# Altium footprint library Texas Instruments Footprints.PcbLib: 429 footprints (part 5 of 32)
Each footprint in its own frame and in the unit in brackets; x right, y up, seen from the top. Pads: shape width x height; smd on the part's side, far side on the other; paste and mask are expansions set on the pad; w line width, h text height; cw(c..) or ccw(c..) is an arc to the next point about the centre after c.
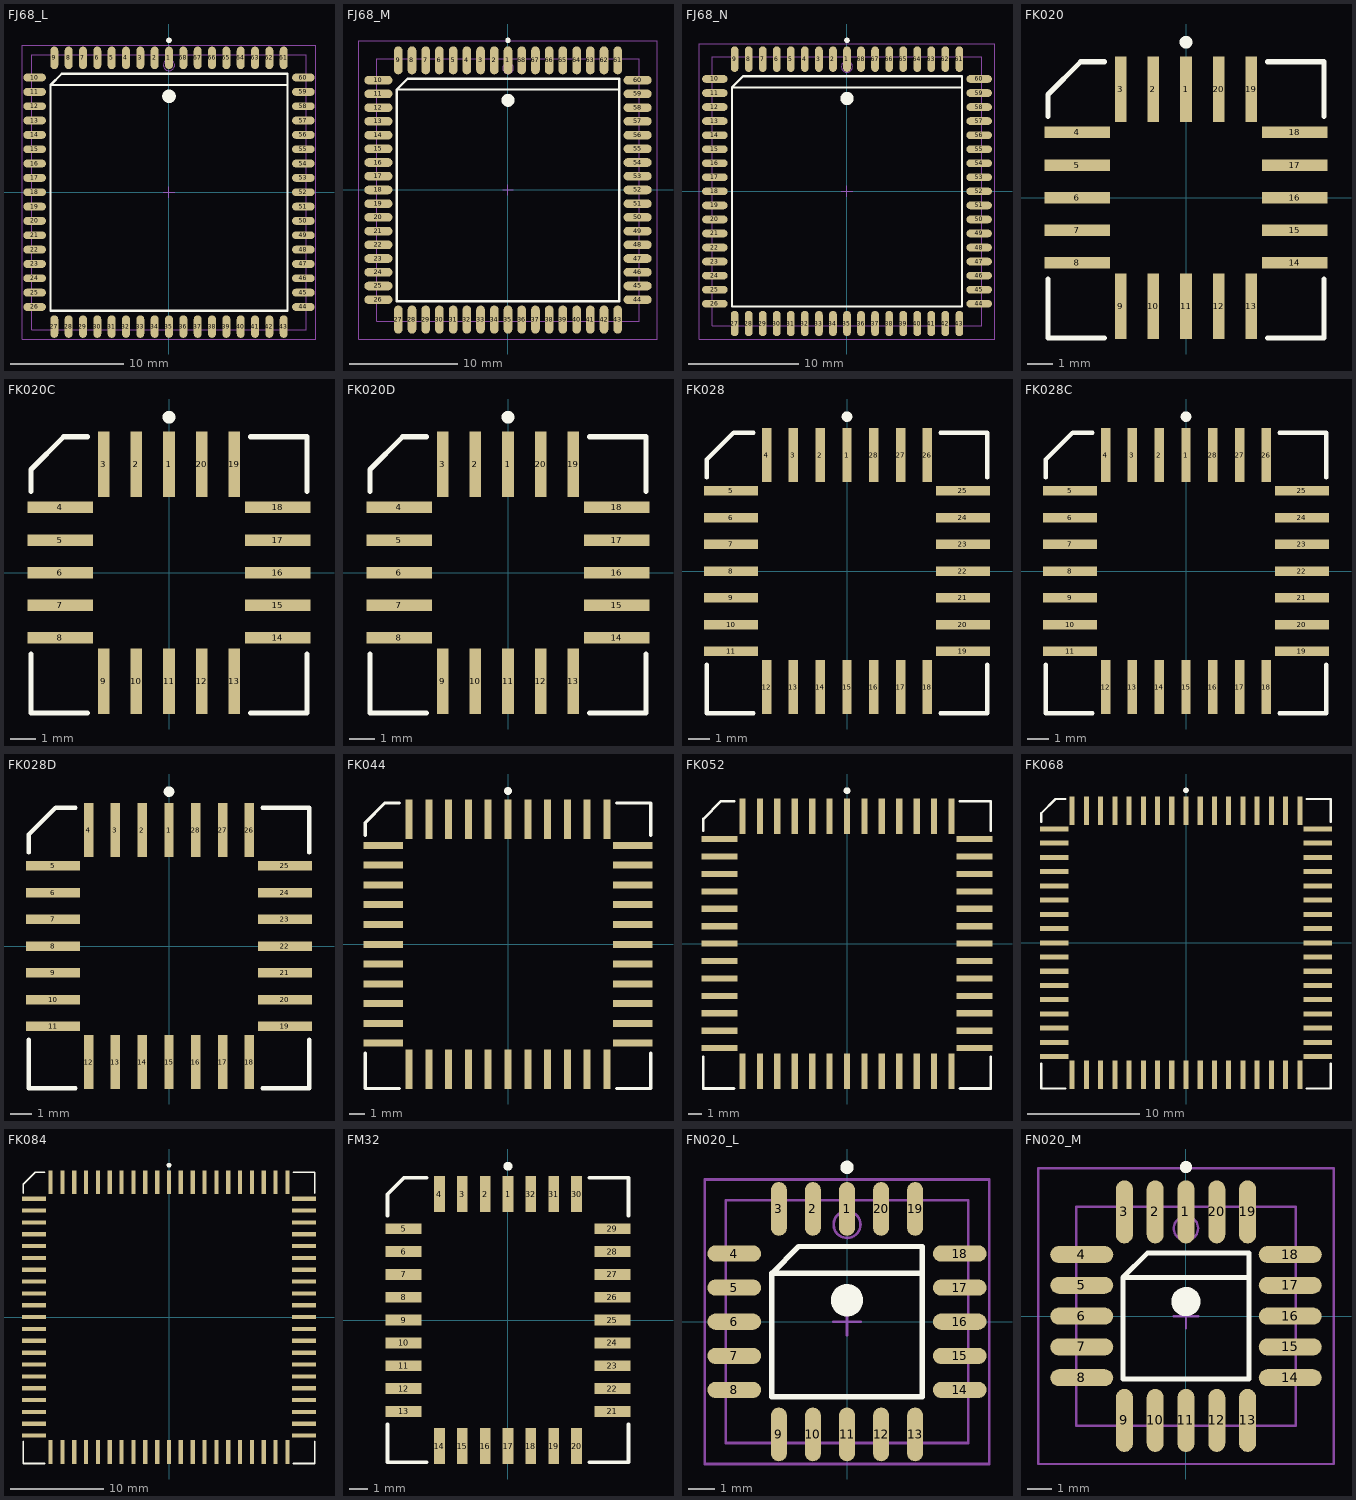
[diagram p4: the footprints below, top view; thin cyan lines are the x and y axes]

## FJ68_L [mm] "68-Pin Leaded Chip Carrier 1.27 mm Pitch, IPC High Density"
height 3.68
pads (68):
  oval 0.7x2 smd: 1(0,11.9) 2(-1.27,11.9) 3(-2.54,11.9) 4(-3.81,11.9) 5(-5.08,11.9) 6(-6.35,11.9) 7(-7.62,11.9) 8(-8.89,11.9) 9(-10.16,11.9) 27(-10.16,-11.9) 28(-8.89,-11.9) 29(-7.62,-11.9) 30(-6.35,-11.9) 31(-5.08,-11.9) 32(-3.81,-11.9) 33(-2.54,-11.9) 34(-1.27,-11.9) 35(0,-11.9) 36(1.27,-11.9) 37(2.54,-11.9) 38(3.81,-11.9) 39(5.08,-11.9) 40(6.35,-11.9) 41(7.62,-11.9) 42(8.89,-11.9) 43(10.16,-11.9) 61(10.16,11.9) 62(8.89,11.9) 63(7.62,11.9) 64(6.35,11.9) 65(5.08,11.9) 66(3.81,11.9) 67(2.54,11.9) 68(1.27,11.9)
  oval 2x0.7 smd: 10(-11.9,10.16) 11(-11.9,8.89) 12(-11.9,7.62) 13(-11.9,6.35) 14(-11.9,5.08) 15(-11.9,3.81) 16(-11.9,2.54) 17(-11.9,1.27) 18(-11.9,0) 19(-11.9,-1.27) 20(-11.9,-2.54) 21(-11.9,-3.81) 22(-11.9,-5.08) 23(-11.9,-6.35) 24(-11.9,-7.62) 25(-11.9,-8.89) 26(-11.9,-10.16) 44(11.9,-10.16) 45(11.9,-8.89) 46(11.9,-7.62) 47(11.9,-6.35) 48(11.9,-5.08) 49(11.9,-3.81) 50(11.9,-2.54) 51(11.9,-1.27) 52(11.9,0) 53(11.9,1.27) 54(11.9,2.54) 55(11.9,3.81) 56(11.9,5.08) 57(11.9,6.35) 58(11.9,7.62) 59(11.9,8.89) 60(11.9,10.16)
Top Overlay:
  circle w0.25: c0,13.45 r0.125
  circle w0.6: c0,8.5 r0.3
  lines w0.2: 10.5,9.5 -10.5,9.5 ; -10.5,9.5 -9.5,10.5 10.5,10.5 10.5,-10.5 -10.5,-10.5 -10.5,9.5
Mechanical 13:
  circle w0.1: c0,11.265 r0.5
  lines w0.1: -12.165,-12.165 -12.165,12.165 12.165,12.165 12.165,-12.165 -12.165,-12.165
Mechanical 15:
  lines w0.1: -0.5,0 0.5,0 ; 0,-0.5 0,0.5 ; -13,-13 -13,13 13,13 13,-13 -13,-13
3D body: height 3.68, standoff 0, extent -12.165,-12.165 12.165,12.165

## FJ68_M [mm] "68-Pin Leaded Chip Carrier 1.27 mm Pitch, IPC Low Density"
height 3.68
pads (68):
  oval 0.8x2.6 smd: 1(0,12) 2(-1.27,12) 3(-2.54,12) 4(-3.81,12) 5(-5.08,12) 6(-6.35,12) 7(-7.62,12) 8(-8.89,12) 9(-10.16,12) 27(-10.16,-12) 28(-8.89,-12) 29(-7.62,-12) 30(-6.35,-12) 31(-5.08,-12) 32(-3.81,-12) 33(-2.54,-12) 34(-1.27,-12) 35(0,-12) 36(1.27,-12) 37(2.54,-12) 38(3.81,-12) 39(5.08,-12) 40(6.35,-12) 41(7.62,-12) 42(8.89,-12) 43(10.16,-12) 61(10.16,12) 62(8.89,12) 63(7.62,12) 64(6.35,12) 65(5.08,12) 66(3.81,12) 67(2.54,12) 68(1.27,12)
  oval 2.6x0.8 smd: 10(-12,10.16) 11(-12,8.89) 12(-12,7.62) 13(-12,6.35) 14(-12,5.08) 15(-12,3.81) 16(-12,2.54) 17(-12,1.27) 18(-12,0) 19(-12,-1.27) 20(-12,-2.54) 21(-12,-3.81) 22(-12,-5.08) 23(-12,-6.35) 24(-12,-7.62) 25(-12,-8.89) 26(-12,-10.16) 44(12,-10.16) 45(12,-8.89) 46(12,-7.62) 47(12,-6.35) 48(12,-5.08) 49(12,-3.81) 50(12,-2.54) 51(12,-1.27) 52(12,0) 53(12,1.27) 54(12,2.54) 55(12,3.81) 56(12,5.08) 57(12,6.35) 58(12,7.62) 59(12,8.89) 60(12,10.16)
Top Overlay:
  circle w0.25: c0,13.85 r0.125
  circle w0.6: c0,8.3 r0.3
  lines w0.2: 10.3,9.3 -10.3,9.3 ; -10.3,9.3 -9.3,10.3 10.3,10.3 10.3,-10.3 -10.3,-10.3 -10.3,9.3
Mechanical 13:
  circle w0.1: c0,11.265 r0.5
  lines w0.1: -12.165,-12.165 -12.165,12.165 12.165,12.165 12.165,-12.165 -12.165,-12.165
Mechanical 15:
  lines w0.1: -0.5,0 0.5,0 ; 0,-0.5 0,0.5 ; -13.8,-13.8 -13.8,13.8 13.8,13.8 13.8,-13.8 -13.8,-13.8
3D body: height 3.68, standoff 0, extent -12.165,-12.165 12.165,12.165

## FJ68_N [mm] "68-Pin Leaded Chip Carrier 1.27 mm Pitch, IPC Medium Density"
height 3.68
pads (68):
  oval 0.7x2.3 smd: 1(0,11.95) 2(-1.27,11.95) 3(-2.54,11.95) 4(-3.81,11.95) 5(-5.08,11.95) 6(-6.35,11.95) 7(-7.62,11.95) 8(-8.89,11.95) 9(-10.16,11.95) 27(-10.16,-11.95) 28(-8.89,-11.95) 29(-7.62,-11.95) 30(-6.35,-11.95) 31(-5.08,-11.95) 32(-3.81,-11.95) 33(-2.54,-11.95) 34(-1.27,-11.95) 35(0,-11.95) 36(1.27,-11.95) 37(2.54,-11.95) 38(3.81,-11.95) 39(5.08,-11.95) 40(6.35,-11.95) 41(7.62,-11.95) 42(8.89,-11.95) 43(10.16,-11.95) 61(10.16,11.95) 62(8.89,11.95) 63(7.62,11.95) 64(6.35,11.95) 65(5.08,11.95) 66(3.81,11.95) 67(2.54,11.95) 68(1.27,11.95)
  oval 2.3x0.7 smd: 10(-11.95,10.16) 11(-11.95,8.89) 12(-11.95,7.62) 13(-11.95,6.35) 14(-11.95,5.08) 15(-11.95,3.81) 16(-11.95,2.54) 17(-11.95,1.27) 18(-11.95,0) 19(-11.95,-1.27) 20(-11.95,-2.54) 21(-11.95,-3.81) 22(-11.95,-5.08) 23(-11.95,-6.35) 24(-11.95,-7.62) 25(-11.95,-8.89) 26(-11.95,-10.16) 44(11.95,-10.16) 45(11.95,-8.89) 46(11.95,-7.62) 47(11.95,-6.35) 48(11.95,-5.08) 49(11.95,-3.81) 50(11.95,-2.54) 51(11.95,-1.27) 52(11.95,0) 53(11.95,1.27) 54(11.95,2.54) 55(11.95,3.81) 56(11.95,5.08) 57(11.95,6.35) 58(11.95,7.62) 59(11.95,8.89) 60(11.95,10.16)
Top Overlay:
  circle w0.25: c0,13.65 r0.125
  circle w0.6: c0,8.4 r0.3
  lines w0.2: 10.4,9.4 -10.4,9.4 ; -10.4,9.4 -9.4,10.4 10.4,10.4 10.4,-10.4 -10.4,-10.4 -10.4,9.4
Mechanical 13:
  circle w0.1: c0,11.265 r0.5
  lines w0.1: -12.165,-12.165 -12.165,12.165 12.165,12.165 12.165,-12.165 -12.165,-12.165
Mechanical 15:
  lines w0.1: -0.5,0 0.5,0 ; 0,-0.5 0,0.5 ; -13.35,-13.35 -13.35,13.35 13.35,13.35 13.35,-13.35 -13.35,-13.35
3D body: height 3.68, standoff 0, extent -12.165,-12.165 12.165,12.165

## FK020 [mm] "Leadless Chip Carrier; 20 Terminals; Body 8.9 x 8.9 mm"
height 2.03
pads (20):
  rect 0.45x2.55 smd: 1(0,4.225) 2(-1.27,4.225) 3(-2.54,4.225) 9(-2.54,-4.225) 10(-1.27,-4.225) 11(0,-4.225) 12(1.27,-4.225) 13(2.54,-4.225) 19(2.54,4.225) 20(1.27,4.225)
  rect 2.55x0.45 smd: 4(-4.225,2.54) 5(-4.225,1.27) 6(-4.225,0) 7(-4.225,-1.27) 8(-4.225,-2.54) 14(4.225,-2.54) 15(4.225,-1.27) 16(4.225,0) 17(4.225,1.27) 18(4.225,2.54)
Top Overlay:
  circle w0.25: c0,6.05 r0.125
  lines w0.2: -5.375,-3.165 -5.375,-5.463 -3.165,-5.463 ; -5.375,3.165 -5.375,4.012 -4.1,5.288 -3.165,5.288 ; 3.165,-5.463 5.375,-5.463 5.375,-3.165 ; 3.165,5.288 5.375,5.288 5.375,3.165

## FK020C [mm] "Leadless Chip Carrier; 20 Terminals; Body 8.9 x 8.9 mm"
height 2.03
pads (20):
  rect 0.45x2.55 smd: 1(0,4.225) 2(-1.27,4.225) 3(-2.54,4.225) 9(-2.54,-4.225) 10(-1.27,-4.225) 11(0,-4.225) 12(1.27,-4.225) 13(2.54,-4.225) 19(2.54,4.225) 20(1.27,4.225)
  rect 2.55x0.45 smd: 4(-4.225,2.54) 5(-4.225,1.27) 6(-4.225,0) 7(-4.225,-1.27) 8(-4.225,-2.54) 14(4.225,-2.54) 15(4.225,-1.27) 16(4.225,0) 17(4.225,1.27) 18(4.225,2.54)
Top Overlay:
  circle w0.25: c0,6.05 r0.125
  lines w0.2: -5.375,-3.165 -5.375,-5.463 -3.165,-5.463 ; -5.375,3.165 -5.375,4.012 -4.1,5.288 -3.165,5.288 ; 3.165,-5.463 5.375,-5.463 5.375,-3.165 ; 3.165,5.288 5.375,5.288 5.375,3.165

## FK020D [mm] "Leadless Chip Carrier; 20 Terminals; Body 8.9 x 8.9 mm"
height 2.03
pads (20):
  rect 0.45x2.55 smd: 1(0,4.225) 2(-1.27,4.225) 3(-2.54,4.225) 9(-2.54,-4.225) 10(-1.27,-4.225) 11(0,-4.225) 12(1.27,-4.225) 13(2.54,-4.225) 19(2.54,4.225) 20(1.27,4.225)
  rect 2.55x0.45 smd: 4(-4.225,2.54) 5(-4.225,1.27) 6(-4.225,0) 7(-4.225,-1.27) 8(-4.225,-2.54) 14(4.225,-2.54) 15(4.225,-1.27) 16(4.225,0) 17(4.225,1.27) 18(4.225,2.54)
Top Overlay:
  circle w0.25: c0,6.05 r0.125
  lines w0.2: -5.375,-3.165 -5.375,-5.463 -3.165,-5.463 ; -5.375,3.165 -5.375,4.012 -4.1,5.288 -3.165,5.288 ; 3.165,-5.463 5.375,-5.463 5.375,-3.165 ; 3.165,5.288 5.375,5.288 5.375,3.165

## FK028 [mm] "Leadless Chip Carrier; 28 Terminals; Body 11.4 x 11.4 mm"
height 2.03
pads (28):
  rect 0.45x2.55 smd: 1(0,5.5) 2(-1.27,5.5) 3(-2.54,5.5) 4(-3.81,5.5) 12(-3.81,-5.5) 13(-2.54,-5.5) 14(-1.27,-5.5) 15(0,-5.5) 16(1.27,-5.5) 17(2.54,-5.5) 18(3.81,-5.5) 26(3.81,5.5) 27(2.54,5.5) 28(1.27,5.5)
  rect 2.55x0.45 smd: 5(-5.5,3.81) 6(-5.5,2.54) 7(-5.5,1.27) 8(-5.5,0) 9(-5.5,-1.27) 10(-5.5,-2.54) 11(-5.5,-3.81) 19(5.5,-3.81) 20(5.5,-2.54) 21(5.5,-1.27) 22(5.5,0) 23(5.5,1.27) 24(5.5,2.54) 25(5.5,3.81)
Top Overlay:
  circle w0.25: c0,7.325 r0.125
  lines w0.2: -6.65,-4.435 -6.65,-6.737 -4.435,-6.737 ; -6.65,4.435 -6.65,5.288 -5.375,6.563 -4.435,6.562 ; 4.435,-6.737 6.65,-6.737 6.65,-4.435 ; 4.435,6.562 6.65,6.562 6.65,4.435

## FK028C [mm] "Leadless Chip Carrier; 28 Terminals; Body 11.4 x 11.4 mm"
height 2.03
pads (28):
  rect 0.45x2.55 smd: 1(0,5.5) 2(-1.27,5.5) 3(-2.54,5.5) 4(-3.81,5.5) 12(-3.81,-5.5) 13(-2.54,-5.5) 14(-1.27,-5.5) 15(0,-5.5) 16(1.27,-5.5) 17(2.54,-5.5) 18(3.81,-5.5) 26(3.81,5.5) 27(2.54,5.5) 28(1.27,5.5)
  rect 2.55x0.45 smd: 5(-5.5,3.81) 6(-5.5,2.54) 7(-5.5,1.27) 8(-5.5,0) 9(-5.5,-1.27) 10(-5.5,-2.54) 11(-5.5,-3.81) 19(5.5,-3.81) 20(5.5,-2.54) 21(5.5,-1.27) 22(5.5,0) 23(5.5,1.27) 24(5.5,2.54) 25(5.5,3.81)
Top Overlay:
  circle w0.25: c0,7.325 r0.125
  lines w0.2: -6.65,-4.435 -6.65,-6.737 -4.435,-6.737 ; -6.65,4.435 -6.65,5.288 -5.375,6.563 -4.435,6.562 ; 4.435,-6.737 6.65,-6.737 6.65,-4.435 ; 4.435,6.562 6.65,6.562 6.65,4.435

## FK028D [mm] "Leadless Chip Carrier; 28 Terminals; Body 11.4 x 11.4 mm"
height 2.03
pads (28):
  rect 0.45x2.55 smd: 1(0,5.5) 2(-1.27,5.5) 3(-2.54,5.5) 4(-3.81,5.5) 12(-3.81,-5.5) 13(-2.54,-5.5) 14(-1.27,-5.5) 15(0,-5.5) 16(1.27,-5.5) 17(2.54,-5.5) 18(3.81,-5.5) 26(3.81,5.5) 27(2.54,5.5) 28(1.27,5.5)
  rect 2.55x0.45 smd: 5(-5.5,3.81) 6(-5.5,2.54) 7(-5.5,1.27) 8(-5.5,0) 9(-5.5,-1.27) 10(-5.5,-2.54) 11(-5.5,-3.81) 19(5.5,-3.81) 20(5.5,-2.54) 21(5.5,-1.27) 22(5.5,0) 23(5.5,1.27) 24(5.5,2.54) 25(5.5,3.81)
Top Overlay:
  circle w0.25: c0,7.325 r0.125
  lines w0.2: -6.65,-4.435 -6.65,-6.737 -4.435,-6.737 ; -6.65,4.435 -6.65,5.288 -5.375,6.563 -4.435,6.562 ; 4.435,-6.737 6.65,-6.737 6.65,-4.435 ; 4.435,6.562 6.65,6.562 6.65,4.435

## FK044 [mm] "Leadless Chip Carrier; 44 Terminals; Body 16.5 x 16.5 mm"
height 2.03
pads (44):
  rect 0.45x2.55 smd: 1(0,8.025) 2(-1.27,8.025) 3(-2.54,8.025) 4(-3.81,8.025) 5(-5.08,8.025) 6(-6.35,8.025) 18(-6.35,-8.025) 19(-5.08,-8.025) 20(-3.81,-8.025) 21(-2.54,-8.025) 22(-1.27,-8.025) 23(0,-8.025) 24(1.27,-8.025) 25(2.54,-8.025) 26(3.81,-8.025) 27(5.08,-8.025) 28(6.35,-8.025) 40(6.35,8.025) 41(5.08,8.025) 42(3.81,8.025) 43(2.54,8.025) 44(1.27,8.025)
  rect 2.55x0.45 smd: 7(-8.025,6.35) 8(-8.025,5.08) 9(-8.025,3.81) 10(-8.025,2.54) 11(-8.025,1.27) 12(-8.025,0) 13(-8.025,-1.27) 14(-8.025,-2.54) 15(-8.025,-3.81) 16(-8.025,-5.08) 17(-8.025,-6.35) 29(8.025,-6.35) 30(8.025,-5.08) 31(8.025,-3.81) 32(8.025,-2.54) 33(8.025,-1.27) 34(8.025,0) 35(8.025,1.27) 36(8.025,2.54) 37(8.025,3.81) 38(8.025,5.08) 39(8.025,6.35)
Top Overlay:
  circle w0.25: c0,9.85 r0.125
  lines w0.2: -9.175,-6.975 -9.175,-9.263 -6.975,-9.263 ; -9.175,6.975 -9.175,7.812 -7.9,9.088 -6.975,9.088 ; 6.975,-9.263 9.175,-9.263 9.175,-6.975 ; 6.975,9.088 9.175,9.088 9.175,6.975

## FK052 [mm] "Leadless Chip Carrier; 52 Terminals; Body 19.1 x 19.1 mm"
height 2.03
pads (52):
  rect 0.45x2.6 smd: 1(0,9.3) 2(-1.27,9.3) 3(-2.54,9.3) 4(-3.81,9.3) 5(-5.08,9.3) 6(-6.35,9.3) 7(-7.62,9.3) 21(-7.62,-9.3) 22(-6.35,-9.3) 23(-5.08,-9.3) 24(-3.81,-9.3) 25(-2.54,-9.3) 26(-1.27,-9.3) 27(0,-9.3) 28(1.27,-9.3) 29(2.54,-9.3) 30(3.81,-9.3) 31(5.08,-9.3) 32(6.35,-9.3) 33(7.62,-9.3) 47(7.62,9.3) 48(6.35,9.3) 49(5.08,9.3) 50(3.81,9.3) 51(2.54,9.3) 52(1.27,9.3)
  rect 2.6x0.45 smd: 8(-9.3,7.62) 9(-9.3,6.35) 10(-9.3,5.08) 11(-9.3,3.81) 12(-9.3,2.54) 13(-9.3,1.27) 14(-9.3,0) 15(-9.3,-1.27) 16(-9.3,-2.54) 17(-9.3,-3.81) 18(-9.3,-5.08) 19(-9.3,-6.35) 20(-9.3,-7.62) 34(9.3,-7.62) 35(9.3,-6.35) 36(9.3,-5.08) 37(9.3,-3.81) 38(9.3,-2.54) 39(9.3,-1.27) 40(9.3,0) 41(9.3,1.27) 42(9.3,2.54) 43(9.3,3.81) 44(9.3,5.08) 45(9.3,6.35) 46(9.3,7.62)
Top Overlay:
  circle w0.25: c0,11.15 r0.125
  lines w0.2: -10.475,-8.245 -10.475,-10.563 -8.245,-10.563 ; -10.475,8.245 -10.475,9.088 -9.175,10.388 -8.245,10.388 ; 8.245,-10.563 10.475,-10.563 10.475,-8.245 ; 8.245,10.388 10.475,10.388 10.475,8.245

## FK068 [mm] "Leadless Chip Carrier; 68 Terminals; Body 24.1 x 24.1 mm"
height 2.03
pads (68):
  rect 0.45x2.55 smd: 1(0,11.775) 2(-1.27,11.775) 3(-2.54,11.775) 4(-3.81,11.775) 5(-5.08,11.775) 6(-6.35,11.775) 7(-7.62,11.775) 8(-8.89,11.775) 9(-10.16,11.775) 27(-10.16,-11.775) 28(-8.89,-11.775) 29(-7.62,-11.775) 30(-6.35,-11.775) 31(-5.08,-11.775) 32(-3.81,-11.775) 33(-2.54,-11.775) 34(-1.27,-11.775) 35(0,-11.775) 36(1.27,-11.775) 37(2.54,-11.775) 38(3.81,-11.775) 39(5.08,-11.775) 40(6.35,-11.775) 41(7.62,-11.775) 42(8.89,-11.775) 43(10.16,-11.775) 61(10.16,11.775) 62(8.89,11.775) 63(7.62,11.775) 64(6.35,11.775) 65(5.08,11.775) 66(3.81,11.775) 67(2.54,11.775) 68(1.27,11.775)
  rect 2.55x0.45 smd: 10(-11.775,10.16) 11(-11.775,8.89) 12(-11.775,7.62) 13(-11.775,6.35) 14(-11.775,5.08) 15(-11.775,3.81) 16(-11.775,2.54) 17(-11.775,1.27) 18(-11.775,0) 19(-11.775,-1.27) 20(-11.775,-2.54) 21(-11.775,-3.81) 22(-11.775,-5.08) 23(-11.775,-6.35) 24(-11.775,-7.62) 25(-11.775,-8.89) 26(-11.775,-10.16) 44(11.775,-10.16) 45(11.775,-8.89) 46(11.775,-7.62) 47(11.775,-6.35) 48(11.775,-5.08) 49(11.775,-3.81) 50(11.775,-2.54) 51(11.775,-1.27) 52(11.775,0) 53(11.775,1.27) 54(11.775,2.54) 55(11.775,3.81) 56(11.775,5.08) 57(11.775,6.35) 58(11.775,7.62) 59(11.775,8.89) 60(11.775,10.16)
Top Overlay:
  circle w0.25: c0,13.6 r0.125
  lines w0.2: -12.925,-10.785 -12.925,-13.012 -10.785,-13.012 ; -12.925,10.785 -12.925,11.562 -11.65,12.838 -10.785,12.838 ; 10.785,-13.012 12.925,-13.012 12.925,-10.785 ; 10.785,12.838 12.925,12.838 12.925,10.785

## FK084 [mm] "Leadless Chip Carrier; 84 Terminals; Body 29.3 x 29.3 mm"
height 2.03
pads (84):
  rect 0.45x2.55 smd: 1(0,14.475) 2(-1.27,14.475) 3(-2.54,14.475) 4(-3.81,14.475) 5(-5.08,14.475) 6(-6.35,14.475) 7(-7.62,14.475) 8(-8.89,14.475) 9(-10.16,14.475) 10(-11.43,14.475) 11(-12.7,14.475) 33(-12.7,-14.475) 34(-11.43,-14.475) 35(-10.16,-14.475) 36(-8.89,-14.475) 37(-7.62,-14.475) 38(-6.35,-14.475) 39(-5.08,-14.475) 40(-3.81,-14.475) 41(-2.54,-14.475) 42(-1.27,-14.475) 43(0,-14.475) 44(1.27,-14.475) 45(2.54,-14.475) 46(3.81,-14.475) 47(5.08,-14.475) 48(6.35,-14.475) 49(7.62,-14.475) 50(8.89,-14.475) 51(10.16,-14.475) 52(11.43,-14.475) 53(12.7,-14.475) 75(12.7,14.475) 76(11.43,14.475) 77(10.16,14.475) 78(8.89,14.475) 79(7.62,14.475) 80(6.35,14.475) 81(5.08,14.475) 82(3.81,14.475) 83(2.54,14.475) 84(1.27,14.475)
  rect 2.55x0.45 smd: 12(-14.475,12.7) 13(-14.475,11.43) 14(-14.475,10.16) 15(-14.475,8.89) 16(-14.475,7.62) 17(-14.475,6.35) 18(-14.475,5.08) 19(-14.475,3.81) 20(-14.475,2.54) 21(-14.475,1.27) 22(-14.475,0) 23(-14.475,-1.27) 24(-14.475,-2.54) 25(-14.475,-3.81) 26(-14.475,-5.08) 27(-14.475,-6.35) 28(-14.475,-7.62) 29(-14.475,-8.89) 30(-14.475,-10.16) 31(-14.475,-11.43) 32(-14.475,-12.7) 54(14.475,-12.7) 55(14.475,-11.43) 56(14.475,-10.16) 57(14.475,-8.89) 58(14.475,-7.62) 59(14.475,-6.35) 60(14.475,-5.08) 61(14.475,-3.81) 62(14.475,-2.54) 63(14.475,-1.27) 64(14.475,0) 65(14.475,1.27) 66(14.475,2.54) 67(14.475,3.81) 68(14.475,5.08) 69(14.475,6.35) 70(14.475,7.62) 71(14.475,8.89) 72(14.475,10.16) 73(14.475,11.43) 74(14.475,12.7)
Top Overlay:
  circle w0.25: c0,16.3 r0.125
  lines w0.2: -15.625,-13.325 -15.625,-15.713 -13.325,-15.713 ; -15.625,13.325 -15.625,14.262 -14.35,15.538 -13.325,15.538 ; 13.325,-15.713 15.625,-15.713 15.625,-13.325 ; 13.325,15.538 15.625,15.538 15.625,13.325

## FM32 [mm] "Leaded Chip Carrier; 32 Leads; Body 11.4 x 14 mm"
height 3.56
pads (32):
  rect 0.6x2 smd: 1(0,7) 2(-1.27,7) 3(-2.54,7) 4(-3.81,7) 14(-3.81,-7) 15(-2.54,-7) 16(-1.27,-7) 17(0,-7) 18(1.27,-7) 19(2.54,-7) 20(3.81,-7) 30(3.81,7) 31(2.54,7) 32(1.27,7)
  rect 2x0.6 smd: 5(-5.8,5.08) 6(-5.8,3.81) 7(-5.8,2.54) 8(-5.8,1.27) 9(-5.8,0) 10(-5.8,-1.27) 11(-5.8,-2.54) 12(-5.8,-3.81) 13(-5.8,-5.08) 21(5.8,-5.08) 22(5.8,-3.81) 23(5.8,-2.54) 24(5.8,-1.27) 25(5.8,0) 26(5.8,1.27) 27(5.8,2.54) 28(5.8,3.81) 29(5.8,5.08)
Top Overlay:
  circle w0.25: c0,8.55 r0.125
  lines w0.2: -6.7,-5.8 -6.7,-7.9 -4.52,-7.9 ; -6.7,5.8 -6.7,7 -5.8,7.9 -4.52,7.9 ; 4.52,-7.9 6.7,-7.9 6.7,-5.8 ; 4.52,7.9 6.7,7.9 6.7,5.8

## FN020_L [mm] "20-Pin Leaded Chip Carrier 1.27 mm Pitch, IPC High Density"
height 4.57
pads (20):
  oval 0.6x2 smd: 1(0,4.2) 2(-1.27,4.2) 3(-2.54,4.2) 9(-2.54,-4.2) 10(-1.27,-4.2) 11(0,-4.2) 12(1.27,-4.2) 13(2.54,-4.2) 19(2.54,4.2) 20(1.27,4.2)
  oval 2x0.6 smd: 4(-4.2,2.54) 5(-4.2,1.27) 6(-4.2,0) 7(-4.2,-1.27) 8(-4.2,-2.54) 14(4.2,-2.54) 15(4.2,-1.27) 16(4.2,0) 17(4.2,1.27) 18(4.2,2.54)
Top Overlay:
  circle w0.25: c0,5.75 r0.125
  circle w0.6: c0,0.8 r0.3
  lines w0.2: 2.8,1.8 -2.8,1.8 ; -2.8,1.8 -1.8,2.8 2.8,2.8 2.8,-2.8 -2.8,-2.8 -2.8,1.8
Mechanical 13:
  circle w0.1: c0,3.62 r0.5
  lines w0.1: -4.52,-4.52 -4.52,4.52 4.52,4.52 4.52,-4.52 -4.52,-4.52
Mechanical 15:
  lines w0.1: -0.5,0 0.5,0 ; 0,-0.5 0,0.5 ; -5.3,-5.3 -5.3,5.3 5.3,5.3 5.3,-5.3 -5.3,-5.3
3D body: height 4.57, standoff 0, extent -4.52,-4.52 4.52,4.52

## FN020_M [mm] "20-Pin Leaded Chip Carrier 1.27 mm Pitch, IPC Low Density"
height 4.57
pads (20):
  oval 0.7x2.6 smd: 1(0,4.3) 2(-1.27,4.3) 3(-2.54,4.3) 9(-2.54,-4.3) 10(-1.27,-4.3) 11(0,-4.3) 12(1.27,-4.3) 13(2.54,-4.3) 19(2.54,4.3) 20(1.27,4.3)
  oval 2.6x0.7 smd: 4(-4.3,2.54) 5(-4.3,1.27) 6(-4.3,0) 7(-4.3,-1.27) 8(-4.3,-2.54) 14(4.3,-2.54) 15(4.3,-1.27) 16(4.3,0) 17(4.3,1.27) 18(4.3,2.54)
Top Overlay:
  circle w0.25: c0,6.15 r0.125
  circle w0.6: c0,0.6 r0.3
  lines w0.2: 2.6,1.6 -2.6,1.6 ; -2.6,1.6 -1.6,2.6 2.6,2.6 2.6,-2.6 -2.6,-2.6 -2.6,1.6
Mechanical 13:
  circle w0.1: c0,3.62 r0.5
  lines w0.1: -4.52,-4.52 -4.52,4.52 4.52,4.52 4.52,-4.52 -4.52,-4.52
Mechanical 15:
  lines w0.1: -0.5,0 0.5,0 ; 0,-0.5 0,0.5 ; -6.1,-6.1 -6.1,6.1 6.1,6.1 6.1,-6.1 -6.1,-6.1
3D body: height 4.57, standoff 0, extent -4.52,-4.52 4.52,4.52